# Altium schematic symbol library RT9193.SchLib: 1 symbol
Pins are listed as number, name and electrical type; pins without a type are passive.

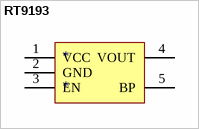
[diagram p0: symbol RT9193]

## RT9193
designator *
pins: 1 VCC, 2 GND, 3 EN, 4 VOUT, 5 BP